# Altium footprint library TSSOP-38.PcbLib: 1 footprints
Each footprint in its own frame and in the unit in brackets; x right, y up, seen from the top. Pads: shape width x height; smd on the part's side, far side on the other; paste and mask are expansions set on the pad; w line width, h text height; cw(c..) or ccw(c..) is an arc to the next point about the centre after c.
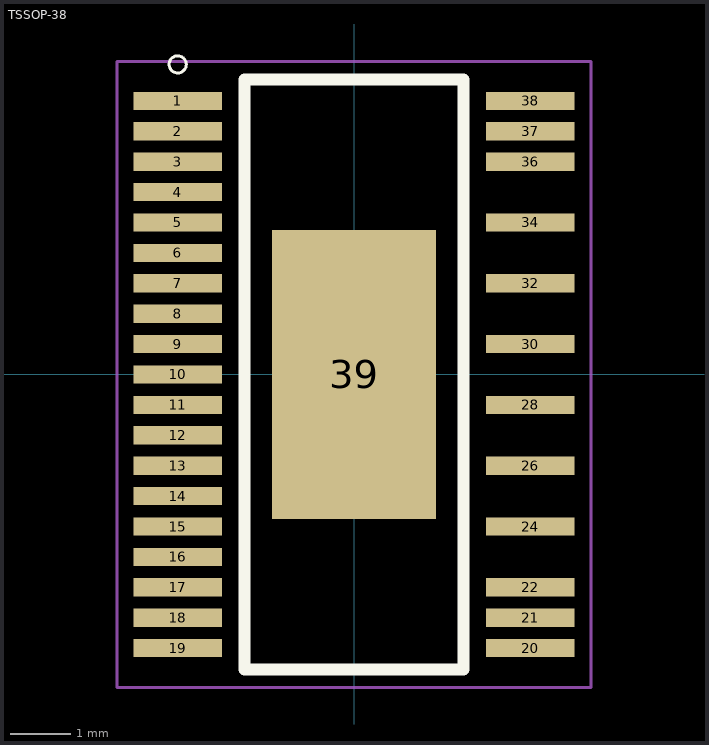
[diagram p0: the footprint, top view; thin cyan lines are the x and y axes]

## TSSOP-38 [mm]
pads (32):
  rect 1.45x0.3 smd: 1(-2.9,4.5) 2(-2.9,4) 3(-2.9,3.5) 4(-2.9,3) 5(-2.9,2.5) 6(-2.9,2) 7(-2.9,1.5) 8(-2.9,1) 9(-2.9,0.5) 10(-2.9,0) 11(-2.9,-0.5) 12(-2.9,-1) 13(-2.9,-1.5) 14(-2.9,-2) 15(-2.9,-2.5) 16(-2.9,-3) 17(-2.9,-3.5) 18(-2.9,-4) 19(-2.9,-4.5) 20(2.9,-4.5) 21(2.9,-4) 22(2.9,-3.5) 24(2.9,-2.5) 26(2.9,-1.5) 28(2.9,-0.5) 30(2.9,0.5) 32(2.9,1.5) 34(2.9,2.5) 36(2.9,3.5) 37(2.9,4) 38(2.9,4.5)
  rect 2.7x4.75 smd: 39(0,0)
Top Overlay:
  circle w0.05: c-2.9,5.1 r0.141
  lines w0.2: -1.8,-4.85 -1.8,4.85 1.8,4.85 1.8,-4.85 -1.8,-4.85
Top Paste:
  region: -0.731,-0.22 0.73,-0.22 0.73,-1.983 -0.731,-1.983
  region: -0.731,1.98 0.73,1.98 0.73,0.22 -0.731,0.22
Mechanical 15:
  lines w0.05: -3.9,-5.15 -3.9,5.15 3.9,5.15 3.9,-5.15 -3.9,-5.15